# Altium schematic symbol library DRV8871DDARQ1.SchLib: 1 symbol
Pins are listed as number, name and electrical type; pins without a type are passive.

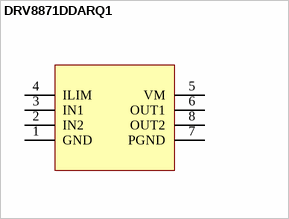
[diagram p0: symbol DRV8871DDARQ1]

## DRV8871DDARQ1
designator U?
pins: 1 GND, 2 IN2, 3 IN1, 4 ILIM, 5 VM, 6 OUT1, 7 PGND, 8 OUT2